# Altium footprint library 8-Pin.PcbLib: 4 footprints
Each footprint in its own frame and in the unit in brackets; x right, y up, seen from the top. Pads: shape width x height; smd on the part's side, far side on the other; paste and mask are expansions set on the pad; w line width, h text height; cw(c..) or ccw(c..) is an arc to the next point about the centre after c.
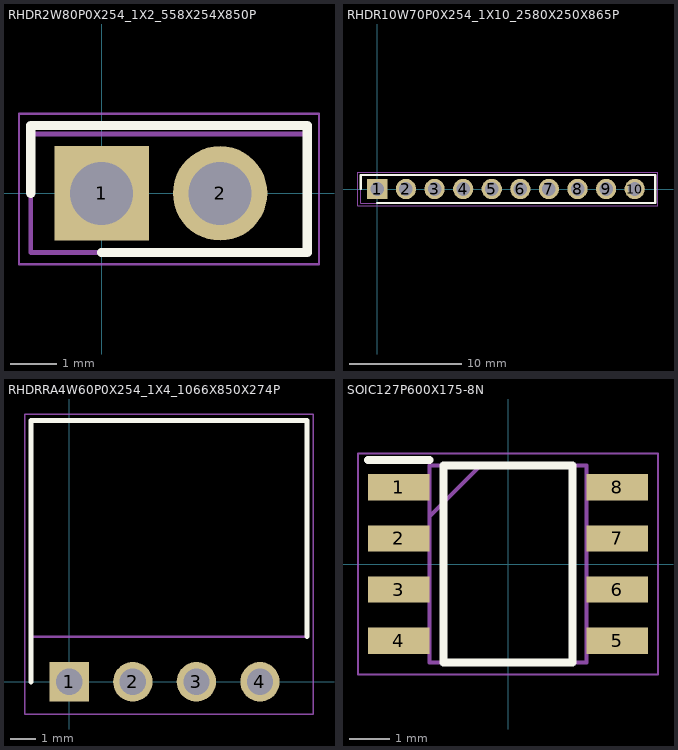
[diagram p0: the footprints below, top view; thin cyan lines are the x and y axes]

## RHDR2W80P0X254_1X2_558X254X850P [mm]
pads (2):
  rect 2.025x2.025 hole 1.35: 1(0,0)
  round 2.025 hole 1.35: 2(2.54,0)
Top Overlay:
  lines w0.2: -1.52,0 -1.52,1.455 4.41,1.455 4.41,-1.27 0,-1.27
Mechanical 13:
  lines w0.1: -1.52,-1.27 4.41,-1.27 4.41,1.27 -1.52,1.27 -1.52,-1.27
Mechanical 15:
  lines w0.05: -1.77,-1.52 4.66,-1.52 4.66,1.705 -1.77,1.705 -1.77,-1.52
3D body "PPPC021LFBN-RC.stp": height 8.5, standoff -3.4, extent -1.52,-1.27 4.06,1.27

## RHDR10W70P0X254_1X10_2580X250X865P [mm]
pads (10):
  rect 1.8x1.8 hole 1.2: 1(0,0)
  round 1.8 hole 1.2: 2(2.54,0) 3(5.08,0) 4(7.62,0) 5(10.16,0) 6(12.7,0) 7(15.24,0) 8(17.78,0) 9(20.32,0) 10(22.86,0)
Top Overlay:
  lines w0.2: -1.47,0 -1.47,1.25 24.68,1.25 24.68,-1.25 0,-1.25
Mechanical 13:
  lines w0.1: -1.47,-1.25 24.68,-1.25 24.68,1.25 -1.47,1.25 -1.47,-1.25
Mechanical 15:
  lines w0.05: -1.72,-1.5 24.93,-1.5 24.93,1.5 -1.72,1.5 -1.72,-1.5
3D body "M20-7821046.stp": height 8.65, standoff -3.25, extent -1.47,-1.25 24.33,1.25

## RHDRRA4W60P0X254_1X4_1066X850X274P [mm]
pads (4):
  rect 1.575x1.575 hole 1.05: 1(0,0)
  round 1.575 hole 1.05: 2(2.54,0) 3(5.08,0) 4(7.62,0)
Top Overlay:
  lines w0.2: -1.52,0 -1.52,10.45 9.49,10.45 9.49,1.8
Mechanical 13:
  lines w0.1: -1.52,1.8 -1.52,10.45 9.49,10.45 9.49,1.8 -1.52,1.8
Mechanical 15:
  lines w0.05: -1.77,-1.288 9.74,-1.288 9.74,10.7 -1.77,10.7 -1.77,-1.288
3D body "PPPC041LGBN-RC.stp": height 2.74, standoff -3.35, extent -1.52,-0.3 9.14,10.1

## SOIC127P600X175-8N [mm]
pads (8):
  rect 1.525x0.65 smd: 1(-2.712,1.905) 2(-2.712,0.635) 3(-2.712,-0.635) 4(-2.712,-1.905) 5(2.712,-1.905) 6(2.712,-0.635) 7(2.712,0.635) 8(2.712,1.905)
Top Overlay:
  lines w0.2: -3.475,2.58 -1.95,2.58 ; -1.6,-2.45 1.6,-2.45 1.6,2.45 -1.6,2.45 -1.6,-2.45
Mechanical 13:
  lines w0.1: -1.95,1.18 -0.68,2.45 ; -1.95,-2.45 1.95,-2.45 1.95,2.45 -1.95,2.45 -1.95,-2.45
Mechanical 15:
  lines w0.05: -3.725,-2.75 3.725,-2.75 3.725,2.75 -3.725,2.75 -3.725,-2.75
3D body "NE555DR.stp": height 1.75, standoff 0, extent -3,-2.45 3,2.45